# Altium footprint library Passive.PcbLib: 26 footprints (part 1 of 2)
Each footprint in its own frame and in the unit in brackets; x right, y up, seen from the top. Pads: shape width x height; smd on the part's side, far side on the other; paste and mask are expansions set on the pad; w line width, h text height; cw(c..) or ccw(c..) is an arc to the next point about the centre after c.
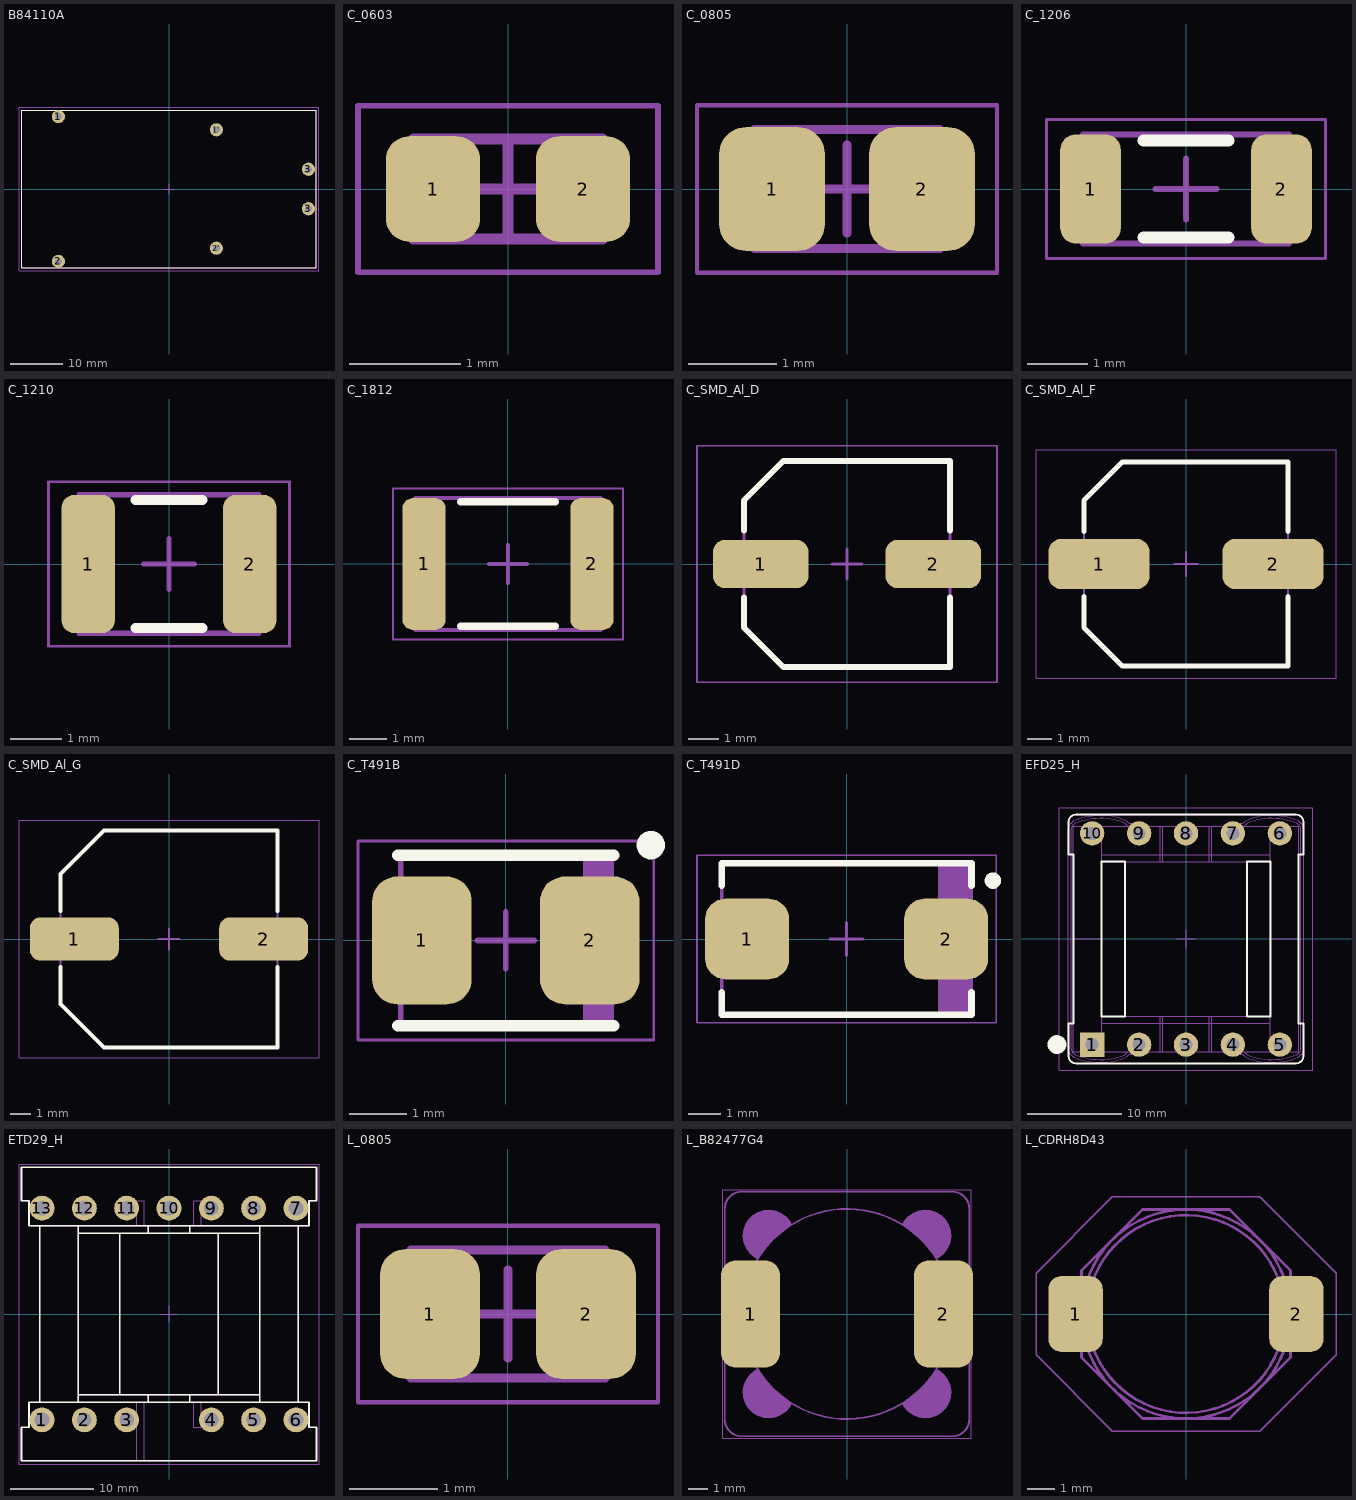
[diagram p0: the footprints below, top view; thin cyan lines are the x and y axes]

## B84110A [mm]
height 23
pads (6):
  round 2.5 hole 1.3: 1(-21,13.75) 1'(9,11.25) 2(-21,-13.75) 2'(9,-11.25) 3(26.5,-3.75) 3(26.5,3.75)
Top Overlay:
  lines w0.2: -28,-15 28,-15 28,15 -28,15 -28,-15
Mechanical 14:
  lines w0.1: -28,-15 -28,15 28,15 28,-15 -28,-15
Mechanical 15:
  lines w0.1: -1,0 1,0 ; 0,-1 0,1 ; -28.5,-15.5 28.5,-15.5 28.5,15.5 -28.5,15.5 -28.5,-15.5

## C_0603 [mm] "Chip Capacitor, 2-Leads, Body 1.60x0.80mm, IPC Medium Density"
height 0.9
pads (2):
  rrect50% 0.85x0.95 smd: 1(-0.675,0) 2(0.675,0)
Mechanical 14:
  lines w0.1: -0.85,-0.45 0.85,-0.45 0.85,0.45 -0.85,0.45 -0.85,-0.45
Mechanical 15:
  lines w0.05: -1.35,-0.75 1.35,-0.75 1.35,0.75 -1.35,0.75 -1.35,-0.75
  lines w0.1: -0.45,0 0.45,0 ; 0,-0.45 0,0.45
3D body "C_0603.step": height 0.9, standoff 0, extent -0.875,-0.475 0.875,0.475

## C_0805 [mm] "Chip Capacitor, 2-Leads, Body 2.00x1.25mm, IPC Medium Density"
height 0.7
pads (2):
  rrect50% 1.2x1.4 smd: 1(-0.85,0) 2(0.85,0)
Mechanical 14:
  lines w0.1: -1.05,-0.675 -1.05,0.675 1.05,0.675 1.05,-0.675 -1.05,-0.675
Mechanical 15:
  lines w0.05: -1.7,-0.95 -1.7,0.95 1.7,0.95 1.7,-0.95 -1.7,-0.95
  lines w0.1: -0.5,0 0.5,0 ; 0,-0.5 0,0.5
3D body "C_0805.step": height 1.45, standoff 0, extent -1.1,-0.725 1.1,0.725

## C_1206 [mm] "Chip Capacitor, 2-Leads, Body 3.20x1.60mm, IPC Medium Density"
height 1.25
pads (2):
  rrect50% 1x1.8 smd: 1(-1.575,0) 2(1.575,0)
Top Overlay:
  lines w0.2: -0.7,-0.8 0.7,-0.8 ; -0.7,0.8 0.7,0.8
Mechanical 14:
  lines w0.1: -1.7,-0.9 -1.7,0.9 1.7,0.9 1.7,-0.9 -1.7,-0.9
Mechanical 15:
  lines w0.05: -2.3,-1.15 -2.3,1.15 2.3,1.15 2.3,-1.15 -2.3,-1.15
  lines w0.1: -0.5,0 0.5,0 ; 0,-0.5 0,0.5
3D body "C_1206.step": height 1.8, standoff 0, extent -1.75,-0.9 1.75,0.9

## C_1210 [mm] "Chip Capacitor, 2-Leads, Body 3.20x2.50mm, IPC Medium Density"
height 2.7
pads (2):
  rrect50% 1.05x2.7 smd: 1(-1.575,0) 2(1.575,0)
Top Overlay:
  lines w0.2: -0.65,-1.25 0.65,-1.25 ; -0.65,1.25 0.65,1.25
Mechanical 14:
  lines w0.1: -1.75,-1.35 1.75,-1.35 1.75,1.35 -1.75,1.35 -1.75,-1.35
Mechanical 15:
  lines w0.05: -2.35,-1.6 2.35,-1.6 2.35,1.6 -2.35,1.6 -2.35,-1.6
  lines w0.1: -0.5,0 0.5,0 ; 0,-0.5 0,0.5
3D body "C_1210.step": height 2.7, standoff 0, extent -1.8,-1.4 1.8,1.4

## C_1812 [mm] "Chip Capacitor, 2-Leads, Body 4.50x3.20mm, IPC Medium Density"
height 2.5
pads (2):
  rrect50% 1.15x3.5 smd: 1(-2.225,0) 2(2.225,0)
Top Overlay:
  lines w0.2: -1.25,-1.65 1.25,-1.65 ; -1.25,1.65 1.25,1.65
Mechanical 14:
  lines w0.1: -2.45,-1.75 -2.45,1.75 2.45,1.75 2.45,-1.75 -2.45,-1.75
Mechanical 15:
  lines w0.05: -3.05,-2 -3.05,2 3.05,2 3.05,-2 -3.05,-2
  lines w0.1: -0.5,0 0.5,0 ; 0,-0.5 0,0.5
3D body "C_1812.step": height 2.7, standoff 0, extent -2.45,-1.8 2.45,1.8

## C_SMD_Al_D [mm] "Aluminum Electrolytic Capacitor, Body 6.60x6.60x6.10mm, IPC Medium Density"
height 6.1
pads (2):
  rrect50% 3.15x1.6 smd: 1(-2.85,0) 2(2.85,0)
Top Overlay:
  lines w0.2: -3.4,-1.1 -3.4,-2.1 -2.1,-3.4 3.4,-3.4 3.4,-1.1 ; -3.4,1.1 -3.4,2.1 -2.1,3.4 3.4,3.4 3.4,1.1
Mechanical 14:
  lines w0.1: -3.4,-2.1 -2.1,-3.4 3.4,-3.4 3.4,3.4 -2.1,3.4 -3.4,2.1 -3.4,-2.1
Mechanical 15:
  lines w0.05: -4.95,-3.9 -4.95,3.9 4.95,3.9 4.95,-3.9 -4.95,-3.9
  lines w0.1: -0.5,0 0.5,0 ; 0,-0.5 0,0.5
3D body "SMD_Al_D.step": height 6.1, standoff -0.2, extent -3.85,-3.4 3.85,3.4

## C_SMD_Al_F [mm] "Aluminum Electrolytic Capacitor, Body 8.30x8.30x10.50mm, IPC Medium Density"
height 10.5
pads (2):
  rrect50% 4.2x2.1 smd: 1(-3.625,0) 2(3.625,0)
Top Overlay:
  lines w0.2: -4.25,-1.35 -4.25,-2.65 -2.65,-4.25 4.25,-4.25 4.25,-1.35 ; -4.25,1.35 -4.25,2.65 -2.65,4.25 4.25,4.25 4.25,1.35
Mechanical 14:
  lines w0.1: -4.25,-2.65 -2.65,-4.25 4.25,-4.25 4.25,4.25 -2.65,4.25 -4.25,2.65 -4.25,-2.65
Mechanical 15:
  lines w0.05: -6.25,-4.75 -6.25,4.75 6.25,4.75 6.25,-4.75 -6.25,-4.75
  lines w0.1: -0.5,0 0.5,0 ; 0,-0.5 0,0.5
3D body "SMD_Al_F.step": height 10.5, standoff 0, extent -4.95,-4.25 4.95,4.25

## C_SMD_Al_G [mm] "Aluminum Electrolytic Capacitor, Body 10.30x10.30x10.50mm, IPC Medium Density"
height 10.5
pads (2):
  rrect50% 4.3x2.1 smd: 1(-4.575,0) 2(4.575,0)
Top Overlay:
  lines w0.2: -5.25,-1.35 -5.25,-3.15 -3.15,-5.25 5.25,-5.25 5.25,-1.35 ; -5.25,1.35 -5.25,3.15 -3.15,5.25 5.25,5.25 5.25,1.35
Mechanical 14:
  lines w0.1: -5.25,-3.15 -3.15,-5.25 5.25,-5.25 5.25,5.25 -3.15,5.25 -5.25,3.15 -5.25,-3.15
Mechanical 15:
  lines w0.05: -7.25,-5.75 -7.25,5.75 7.25,5.75 7.25,-5.75 -7.25,-5.75
  lines w0.1: -0.5,0 0.5,0 ; 0,-0.5 0,0.5
3D body "SMD_Al_G.step": height 10.5, standoff 0, extent -5.95,-5.25 5.95,5.25

## C_T491B [mm] "Molded Capacitor, 2-Leads, Body 3.50x2.80mm, IPC Medium Density"
height 2.1
pads (2):
  rrect50% 1.75x2.25 smd: 1(-1.475,0) 2(1.475,0)
Top Overlay:
  circle w0.25: c2.55,1.675 r0.125
  lines w0.2: -1.9,-1.5 1.9,-1.5 ; -1.9,1.5 1.9,1.5
Mechanical 14:
  rectangle: 1.352,-1.5 1.85,1.5
  lines w0.1: -1.85,-1.5 -1.85,1.5 1.85,1.5 1.85,-1.5 -1.85,-1.5
Mechanical 15:
  lines w0.05: -2.6,-1.75 -2.6,1.75 2.6,1.75 2.6,-1.75 -2.6,-1.75
  lines w0.1: -0.5,0 0.5,0 ; 0,-0.5 0,0.5
3D body "T491B.step": height 2.1, standoff 0, extent -2.07,-1.5 2.07,1.5

## C_T491D [mm] "Molded Capacitor, 2-Leads, Body 7.30x4.30mm, IPC Medium Density"
height 3.1
pads (2):
  rrect50% 2.55x2.45 smd: 1(-3.025,0) 2(3.025,0)
Top Overlay:
  circle w0.25: c4.45,1.775 r0.125
  lines w0.2: -3.8,-1.625 -3.8,-2.3 3.8,-2.3 3.8,-1.625 ; -3.8,1.625 -3.8,2.3 3.8,2.3 3.8,1.625
Mechanical 14:
  rectangle: 2.778,-2.3 3.8,2.3
  lines w0.1: -3.8,-2.3 3.8,-2.3 3.8,2.3 -3.8,2.3 -3.8,-2.3
Mechanical 15:
  lines w0.05: -4.55,-2.55 4.55,-2.55 4.55,2.55 -4.55,2.55 -4.55,-2.55
  lines w0.1: -0.5,0 0.5,0 ; 0,-0.5 0,0.5
3D body "T491D.step": height 3.1, standoff 0, extent -4.02,-2.3 4.02,2.3

## EFD25_H [mm]
pads (10):
  rect 2.6x2.6 hole 1.4: 1(-10,-11.25)
  round 2.6 hole 1.4: 2(-5,-11.25) 3(0,-11.25) 4(5,-11.25) 5(10,-11.25) 6(10,11.25) 7(5,11.25) 8(0,11.25) 9(-5,11.25) 10(-10,11.25)
Top Overlay:
  circle w1: c-13.75,-11.25 r0.5
  lines w0.2: -12.5,-12.5 ccw(c-11.75,-12.5) -11.75,-13.25 11.75,-13.25 ccw(c11.75,-12.5) 12.5,-12.5 12.5,-9 12,-9 12,9 12.5,9 12.5,12.5 ccw(c11.75,12.5) 11.75,13.25 -11.75,13.25 ccw(c-11.75,12.5) -12.5,12.5 -12.5,9 -12,9 -12,-9 -12.5,-9 -12.5,-12.5 ; -9,-8.25 -6.5,-8.25 -6.5,8.25 -9,8.25 -9,-8.25 ; 6.5,-8.25 9,-8.25 9,8.25 6.5,8.25 6.5,-8.25
Mechanical 14:
  lines w0.1: -12.5,-12 -12.5,-12.5 ccw(c-11.75,-12.5) -11.75,-13.25 11.75,-13.25 ccw(c11.75,-12.5) 12.5,-12.5 12.5,-12 ; -12.5,12 -12.5,12.5 cw(c-11.75,12.5) -11.75,13.25 ; -12.241,12.354 -11.954,12.578 cw(c-9.317,6.456) -9.561,13.117 ; -12.24,12.355 ccw(c-11.75,11.722) -12.55,11.722 -12.55,-11.722 ccw(c-11.75,-11.722) -12.241,-12.354 -11.954,-12.578 ; -12.057,12.117 -11.8,12.317 ; -12.056,12.117 ccw(c-11.75,11.722) -12.25,11.722 -12.25,-11.722 ccw(c-11.75,-11.722) -12.057,-12.117 -11.8,-12.317 ; -12,0 -9,0 ; -11.964,-12.573 ccw(c-9.317,-6.456) -9.573,-13.116 ; -11.804,-12.315 ccw(c-9.317,-6.456) -9.55,-12.817 ; -11.794,12.32 cw(c-9.317,6.456) -9.539,12.817 ; -9.575,-13.116 ccw(c-8.925,-7.317) -6.385,-12.571 ; -9.565,13.117 cw(c-8.925,7.317) -6.376,12.566 ; -9.552,-12.817 ccw(c-8.925,-7.317) -6.551,-12.317 ; -9.542,12.818 cw(c-8.925,7.317) -6.542,12.313 ; -9,-12 -9,-9 ; -9,12 -9,9 ; -6.551,12.318 ccw(c-5.708,13.277) -5.301,12.067 ; -6.549,-12.316 cw(c-5.708,-13.277) -5.299,-12.067 ; -6.5,-8.25 -6.5,8.25 ; -6.382,12.569 ccw(c-5.708,13.277) -5.396,12.351 ccw(c-5.427,12.444) -5.334,12.413 -5.05,12.317 cw(c-5.427,12.444) -5.3,12.067 ; -6.38,-12.568 cw(c-5.708,-13.277) -5.395,-12.352 ; -6.159,-12 ccw(c-5.559,-12) -6.154,-12.08 ; -6.088,12 cw(c-5.465,12.017) -6.087,12.058 ; -5.919,12 cw(c-5.427,11.923) -5.916,12.017 ; -5.396,-12.351 cw(c-5.427,-12.444) -5.334,-12.413 -5.05,-12.317 ; -5.3,-12.067 cw(c-5.427,-12.444) -5.05,-12.317 ; -2.75,-12 -2.75,-8.25 ; -2.75,8.25 -2.75,12 ; -2.5,-12 -2.5,-8.25 ; -2.5,8.25 -2.5,12 ; 2.5,-12 2.5,-8.25 ; 2.5,8.25 2.5,12 ; 2.75,-12 2.75,-8.25 ; 2.75,8.25 2.75,12 ; 5.05,-12.317 cw(c5.427,-12.444) 5.3,-12.067 ; 5.05,-12.317 5.334,-12.413 cw(c5.427,-12.444) 5.396,-12.351 ; 5.299,-12.067 cw(c5.708,-13.277) 6.549,-12.316 ; 5.3,12.067 cw(c5.427,12.444) 5.05,12.317 5.334,12.413 ccw(c5.427,12.444) 5.396,12.351 ccw(c5.708,13.277) 6.382,12.569 ; 5.301,12.067 ccw(c5.708,13.277) 6.551,12.318 ; 5.395,-12.352 cw(c5.708,-13.277) 6.38,-12.568 ; 5.916,12.017 cw(c5.427,11.923) 5.919,12 ; 6.087,12.058 cw(c5.465,12.017) 6.088,12 ; 6.154,-12.08 ccw(c5.559,-12) 6.159,-12 ; 6.376,12.566 cw(c8.925,7.317) 9.565,13.117 ; 6.385,-12.571 ccw(c8.925,-7.317) 9.575,-13.116 ; 6.5,-8.25 6.5,8.25 ; 6.542,12.313 cw(c8.925,7.317) 9.542,12.818 ; 6.551,-12.317 ccw(c8.925,-7.317) 9.552,-12.817 ; 9,-12 9,-9 ; 9,0 12,0 ; 9,12 9,9 ; 9.539,12.817 cw(c9.317,6.456) 11.794,12.32 ; 9.55,-12.817 ccw(c9.317,-6.456) 11.804,-12.315 ; 9.561,13.117 cw(c9.317,6.456) 11.953,12.578 12.241,12.354 ; 9.573,-13.116 ccw(c9.317,-6.456) 11.964,-12.573 ; 11.8,-12.317 12.057,-12.117 ccw(c11.75,-11.722) 12.25,-11.722 12.25,11.722 ccw(c11.75,11.722) 12.056,12.117 ; 11.8,12.317 12.057,12.117 ; 11.954,-12.578 12.241,-12.354 ccw(c11.75,-11.722) 12.55,-11.722 12.55,11.722 ccw(c11.75,11.722) 12.24,12.355 ; 12,-9 12.25,-9 ; 12,9 12.25,9 ; 12.5,12 12.5,12.5 ccw(c11.75,12.5) 11.75,13.25 -11.75,13.25 ; -11.75,13.25 -11.75,13.25 ; -9,-9 9,-9 ; -9,-9 -9,-8.25 ; -9,-8.25 -9,8.25 ; -9,-8.25 9,-8.25 ; -9,8.25 9,8.25 ; -9,8.25 -9,9 ; -9,9 9,9 ; 9,-9 9,-8.25 ; 9,-8.25 9,8.25 ; 9,8.25 9,9 ; -12,-12 12,-12 12,12 -12,12 -12,-12
Mechanical 15:
  lines w0.1: -1,0 1,0 ; 0,-1 0,1 ; -13.5,-14 -13.5,14 13.5,14 13.5,-14 -13.5,-14

## ETD29_H [mm]
height 25
pads (13):
  round 3 hole 1.75: 1(-15.24,-12.7) 2(-10.16,-12.7) 3(-5.08,-12.7) 4(5.08,-12.7) 5(10.16,-12.7) 6(15.24,-12.7) 7(15.24,12.7) 8(10.16,12.7) 9(5.08,12.7) 10(0,12.7) 11(-5.08,12.7) 12(-10.16,12.7) 13(-15.24,12.7)
Top Overlay:
  lines w0.2: -10.9,-10.6 -10.9,10.6 ; -10.9,-9.7 10.9,-9.7 ; -10.9,9.7 10.9,9.7 ; -5.9,-9.7 -5.9,9.7 ; -2.5,-10.6 -2.5,-9.7 ; -2.5,9.7 -2.5,10.6 ; 2.5,-10.6 2.5,-9.7 ; 2.5,9.7 2.5,10.6 ; 5.9,-9.7 5.9,9.7 ; 10.9,-10.6 10.9,10.6 ; -15.5,-10.6 -16.8,-10.6 -16.8,-13.6 -17.7,-13.6 -17.7,-17.6 17.7,-17.6 17.7,-13.6 16.8,-13.6 16.8,-10.6 15.5,-10.6 ; -15.5,-10.6 -15.5,10.6 ; -15.5,-10.6 15.5,-10.6 ; -15.5,10.6 -16.8,10.6 -16.8,13.6 -17.7,13.6 -17.7,17.6 17.7,17.6 17.7,13.6 16.8,13.6 16.8,10.6 15.5,10.6 ; -15.5,10.6 -10.9,10.6 ; -10.9,10.6 15.5,10.6 ; 15.5,-10.6 15.5,10.6
Mechanical 14:
  lines w0.1: -15.5,-10.6 -15.5,10.6 ; -5.9,-9.7 -5.9,9.7 ; -3.9,-17.6 -3.9,-10.6 ; -3.9,10.6 -3.9,13.6 -3,13.6 -3,10.6 ; -3,-17.6 -3,-10.6 ; -2.5,-10.6 -2.5,-9.7 ; -2.5,9.7 -2.5,10.6 ; 2.5,-10.6 2.5,-9.7 ; 2.5,9.7 2.5,10.6 ; 3,-10.6 3,-13.6 3.9,-13.6 3.9,-10.6 ; 3,10.6 3,13.6 3.9,13.6 3.9,10.6 ; 5.9,-9.7 5.9,9.7 ; 15.5,-10.6 15.5,10.6 ; -10.9,-10.6 -16.8,-10.6 -16.8,-13.6 -17.7,-13.6 -17.7,-17.6 17.7,-17.6 17.7,-13.6 16.8,-13.6 16.8,-10.6 10.9,-10.6 ; -10.9,-10.6 10.9,-10.6 ; -10.9,-10.6 -10.9,-9.7 ; -10.9,-9.7 -10.9,9.7 ; -10.9,-9.7 10.9,-9.7 ; -10.9,9.7 -10.9,10.6 ; -10.9,9.7 10.9,9.7 ; -10.9,10.6 -16.8,10.6 -16.8,13.6 -17.7,13.6 -17.7,17.6 17.7,17.6 17.7,13.6 16.8,13.6 16.8,10.6 10.9,10.6 ; -10.9,10.6 10.9,10.6 ; 10.9,-10.6 10.9,-9.7 ; 10.9,-9.7 10.9,9.7 ; 10.9,9.7 10.9,10.6
Mechanical 15:
  lines w0.1: -1,0 1,0 ; 0,-1 0,1 ; -18,-18 -18,18 18,18 18,-18 -18,-18

## L_0805 [mm] "Chip Inductor, 2-Leads, Body 2.00x1.25mm, IPC Medium Density"
height 1
pads (2):
  rrect50% 1.13x1.47 smd: 1(-0.885,0) 2(0.885,0)
Mechanical 14:
  lines w0.1: -1.1,-0.725 -1.1,0.725 1.1,0.725 1.1,-0.725 -1.1,-0.725
Mechanical 15:
  lines w0.05: -1.7,-1 -1.7,1 1.7,1 1.7,-1 -1.7,-1
  lines w0.1: -0.5,0 0.5,0 ; 0,-0.5 0,0.5
3D body "L_0805.step": height 1, standoff 0, extent -1.1,-0.725 1.1,0.725

## L_B82477G4 [mm]
height 8
pads (2):
  rrect50% 3.1x5.6 smd: 1(-5.05,0) 2(5.05,0)
Mechanical 14:
  circle w0.1: c0,0 r5.5
  region: 2.897,4.702 2.968,4.845 3.174,5.089 3.432,5.279 3.727,5.402 4.042,5.454 4.361,5.429 4.665,5.331 4.938,5.164 5.164,4.938 5.331,4.665 5.429,4.361 5.454,4.042 5.402,3.727 5.279,3.432 5.089,3.174 4.845,2.968 4.702,2.897 4.525,3.166 4.126,3.671 3.671,4.126 3.166,4.525
  region: 4.702,-2.897 4.845,-2.968 5.089,-3.174 5.279,-3.432 5.402,-3.727 5.454,-4.042 5.429,-4.361 5.331,-4.665 5.164,-4.938 4.938,-5.164 4.665,-5.331 4.361,-5.429 4.042,-5.454 3.727,-5.402 3.432,-5.279 3.174,-5.089 2.968,-4.845 2.897,-4.702 3.166,-4.525 3.671,-4.126 4.126,-3.671 4.525,-3.166
  region: -2.897,-4.702 -2.968,-4.845 -3.174,-5.089 -3.432,-5.279 -3.727,-5.402 -4.042,-5.454 -4.361,-5.429 -4.665,-5.331 -4.938,-5.164 -5.164,-4.938 -5.331,-4.665 -5.429,-4.361 -5.454,-4.042 -5.402,-3.727 -5.279,-3.432 -5.089,-3.174 -4.845,-2.968 -4.702,-2.897 -4.525,-3.166 -4.126,-3.671 -3.671,-4.126 -3.166,-4.525
  region: -4.702,2.897 -4.845,2.968 -5.089,3.174 -5.279,3.432 -5.402,3.727 -5.454,4.042 -5.429,4.361 -5.331,4.665 -5.164,4.938 -4.938,5.164 -4.665,5.331 -4.361,5.429 -4.042,5.454 -3.727,5.402 -3.432,5.279 -3.174,5.089 -2.968,4.845 -2.897,4.702 -3.166,4.525 -3.671,4.126 -4.126,3.671 -4.525,3.166
  lines w0.1: -6.4,-5.5 ccw(c-5.5,-5.5) -5.5,-6.4 5.5,-6.4 ccw(c5.5,-5.5) 6.4,-5.5 6.4,5.5 ccw(c5.5,5.5) 5.5,6.4 -5.5,6.4 ccw(c-5.5,5.5) -6.4,5.5 -6.4,-5.5
Mechanical 15:
  lines w0.05: -6.5,-6.5 6.5,-6.5 6.5,6.5 -6.5,6.5 -6.5,-6.5

## L_CDRH8D43 [mm]
height 4.5
pads (2):
  rrect50% 2x2.8 smd: 1(-4.05,0) 2(4.05,0)
Mechanical 14:
  circle w0.1: c0,0 r3.625
  circle w0.1: c0,0 r3.834
  lines w0.1: -3.834,-1.588 -3.834,1.588 -1.588,3.834 1.588,3.834 3.834,1.588 3.834,-1.588 1.588,-3.834 -1.588,-3.834 -3.834,-1.588
Mechanical 15:
  lines w0.05: -5.5,-1.5 -2.7,-4.3 2.7,-4.3 5.5,-1.5 5.5,0 5.5,1.5 2.7,4.3 -2.7,4.3 -5.5,1.5 -5.5,-1.5